# EAGLE library part WE-LAN_1000_BASETX_749020100 (library Wuerth_Elektronik_eiSos_ v6.0)
LAN-Transformer WE-LAN 1000 Base Tx - Compliant with IEEE 802.3 standards - SMD -- Ethernet -- Power over Ethernet -- 1 Gigabit Ethernet -- Compliant with most IC's for ethernet applications like Intel, AMD, Globespan and Realtek -- Hub, Router, Switch
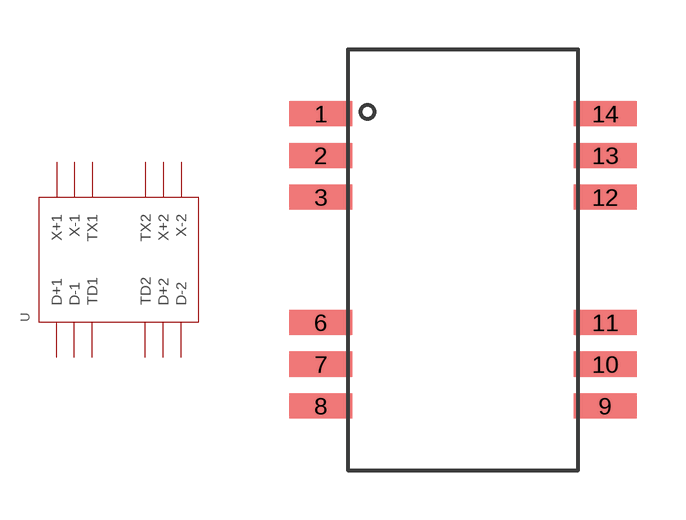
[diagram p33: symbol with the pads of WE-LAN_1000_BASTX_749020100; footprint WE-LAN_1000_BASTX_749020100]

Designator prefix -

## WE-LAN_1000_BASETX_749020100  [WE-LAN_1000_BASTX_749020100]
1  D+1  pas
2  D+2  pas
3  D-1  pas
6  D-2  pas
7  TD1  pas
8  TD2  pas
9  TX1  pas
10  TX2  pas
11  X+1  pas
12  X+2  pas
13  X-1  pas
14  X-2  pas

## Footprint WE-LAN_1000_BASTX_749020100 (pad centres in mm)
WE-LAN 1000 BaseTx
smd 1.91 x 0.76: 1 -4.32,4.445; 2 -4.32,3.175; 3 -4.32,1.905; 6 -4.32,-1.905; 7 -4.32,-3.175; 8 -4.32,-4.445; 9 4.32,-4.445; 10 4.32,-3.175; 11 4.32,-1.905; 12 4.32,1.905; 13 4.32,3.175; 14 4.32,4.445